# Altium schematic symbol library discrete_switch.SchLib: 6 symbols
Pins are listed as number, name and electrical type; pins without a type are passive.

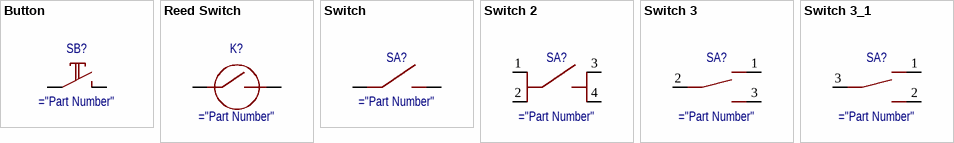
[diagram p0: symbols Button to Switch 3_1]

## Button
designator SB?
Кнопка тактовая
pins: 1, 2

## Reed Switch
designator K?
Геркон
pins: 1, 2

## Switch
designator SA?
Кнопка
pins: 1, 2

## Switch 2
designator SA?
Кнопка
pins: 1, 2, 3, 4

## Switch 3
designator SA?
Переключатель
pins: 1, 2, 3

## Switch 3_1
designator SA?
Переключатель
pins: 1, 2, 3